# Altium schematic symbol library SG_Common.SchLib: 9 symbols
Pins are listed as number, name and electrical type; pins without a type are passive.

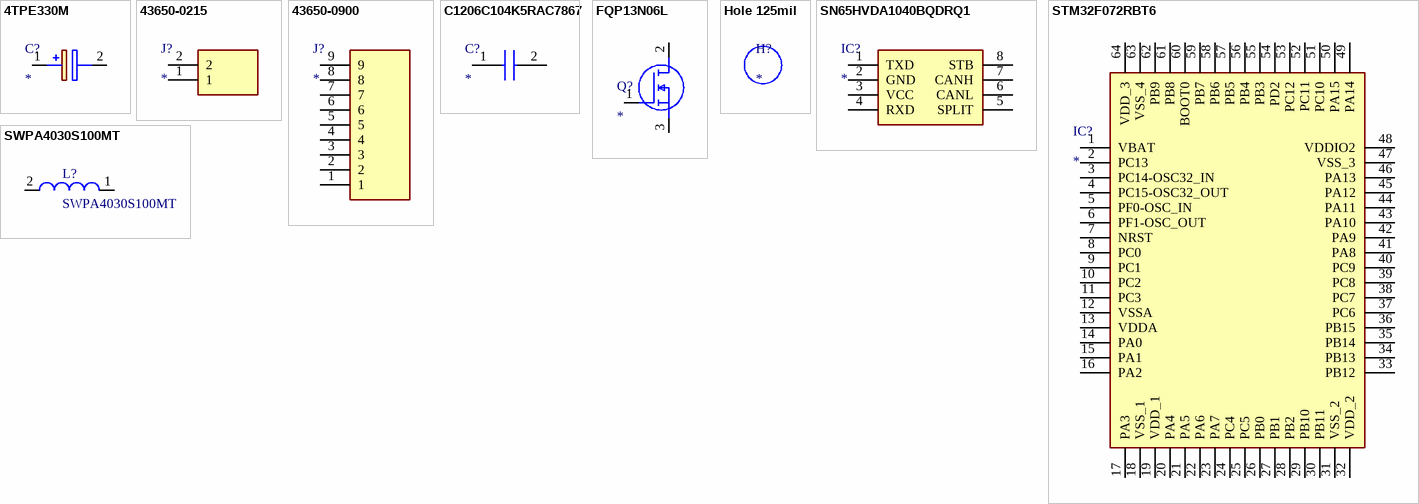
[diagram p0: symbols 4TPE330M to SWPA4030S100MT]

## 4TPE330M
designator C?
Capacitor Polarised; Manufacturer_Name: Panasonic; Manufacturer_Part_Number: 4TPE330M; Datasheet Link: http://industrial.panasonic.com/cdbs/www-data/pdf/AAA8000/AAA8000C36.pdf
footprint POSCAP_D12_D15_D15E_D2E_D2_D3L_D4
pins: 1 +, 2 -

## 43650-0215
designator J?
Connector; Manufacturer_Name: Molex; Manufacturer_Part_Number: 43650-0215; Datasheet Link: https://componentsearchengine.com//43650-0215.pdf; Height: 9.9mm; Mouser2 Part Number: 538-43650-0215; Mouser2 Price/Stock: https://www.mouser.com/Search/Refine.aspx?Keyword=538-43650-0215
footprint 43650-02YY_15,16,17
pins: 1, 2

## 43650-0900
designator J?
Connector; Manufacturer_Name: Molex; Manufacturer_Part_Number: 43650-0900; Datasheet Link: https://www.molex.com/pdm_docs/sd/436500200_sd.pdf; Height: 5.57mm
footprint 43650-09YY_R
pins: 1, 2, 3, 4, 5, 6, 7, 8, 9

## C1206C104K5RAC7867
designator C?
Capacitor; Manufacturer_Name: Kemet; Manufacturer_Part_Number: C1206C104K5RAC7867; Datasheet Link: https://componentsearchengine.com//C1206C104K5RAC7867.pdf; Height: 1.1mm; Mouser2 Part Number: 80-C1206104K5RAC7867; Mouser2 Price/Stock: https://www.mouser.com/Search/Refine.aspx?Keyword=80-C1206104K5RAC7867
footprint CAPC3216X110N
pins: 1, 2

## FQP13N06L
designator Q?
MOSFET (N-Channel); Manufacturer_Name: ON Semiconductor; Manufacturer_Part_Number: FQP13N06L; Datasheet Link: https://componentsearchengine.com//FQP13N06L.pdf; Height: 4.83mm; Mouser2 Part Number: 512-FQP13N06L; Mouser2 Price/Stock: https://www.mouser.com/Search/Refine.aspx?Keyword=512-FQP13N06L
footprint TO254P483X1016X2261-3P
pins: 1 G, 2 D, 3 S

## Hole 125mil
designator H?
footprint Hole

## SN65HVDA1040BQDRQ1
designator IC?
Integrated Circuit; Manufacturer_Name: Texas Instruments; Manufacturer_Part_Number: SN65HVDA1040BQDRQ1; Datasheet Link: http://www.ti.com/lit/gpn/SN65HVDA1040B-Q1; Height: 1.75mm
footprint SOIC127P600X175-8N
pins: 1 TXD, 2 GND, 3 VCC, 4 RXD, 5 SPLIT, 6 CANL, 7 CANH, 8 STB

## STM32F072RBT6
designator IC?
Integrated Circuit; Manufacturer_Name: STMicroelectronics; Manufacturer_Part_Number: STM32F072RBT6; Datasheet Link: https://componentsearchengine.com//STM32F072RBT6.pdf; Height: 1.6mm; Mouser2 Part Number: 511-STM32F072RBT6; Mouser2 Price/Stock: https://www.mouser.com/Search/Refine.aspx?Keyword=511-STM32F072RBT6
footprint QFP50P1200X1200X160-64N
pins: 1 VBAT, 2 PC13, 3 PC14-OSC32_IN, 4 PC15-OSC32_OUT, 5 PF0-OSC_IN, 6 PF1-OSC_OUT, 7 NRST, 8 PC0, 9 PC1, 10 PC2, 11 PC3, 12 VSSA, 13 VDDA, 14 PA0, 15 PA1, 16 PA2, 17 PA3, 18 VSS_1, 19 VDD_1, 20 PA4, 21 PA5, 22 PA6, 23 PA7, 24 PC4, 25 PC5, 26 PB0, 27 PB1, 28 PB2, 29 PB10, 30 PB11, 31 VSS_2, 32 VDD_2, 33 PB12, 34 PB13, 35 PB14, 36 PB15, 37 PC6, 38 PC7, 39 PC8, 40 PC9, 41 PA8, 42 PA9, 43 PA10, 44 PA11, 45 PA12, 46 PA13, 47 VSS_3, 48 VDDIO2, 49 PA14, 50 PA15, 51 PC10, 52 PC11, 53 PC12, 54 PD2, 55 PB3, 56 PB4, 57 PB5, 58 PB6, 59 PB7, 60 BOOT0, 61 PB8, 62 PB9, 63 VSS_4, 64 VDD_3

## SWPA4030S100MT
designator L?
footprint SWPA4030S100MT
pins: 1, 2